# Altium schematic symbol library Revo_element.SchLib: 112 symbols (part 1 of 2)
Pins are listed as number, name and electrical type; pins without a type are passive.

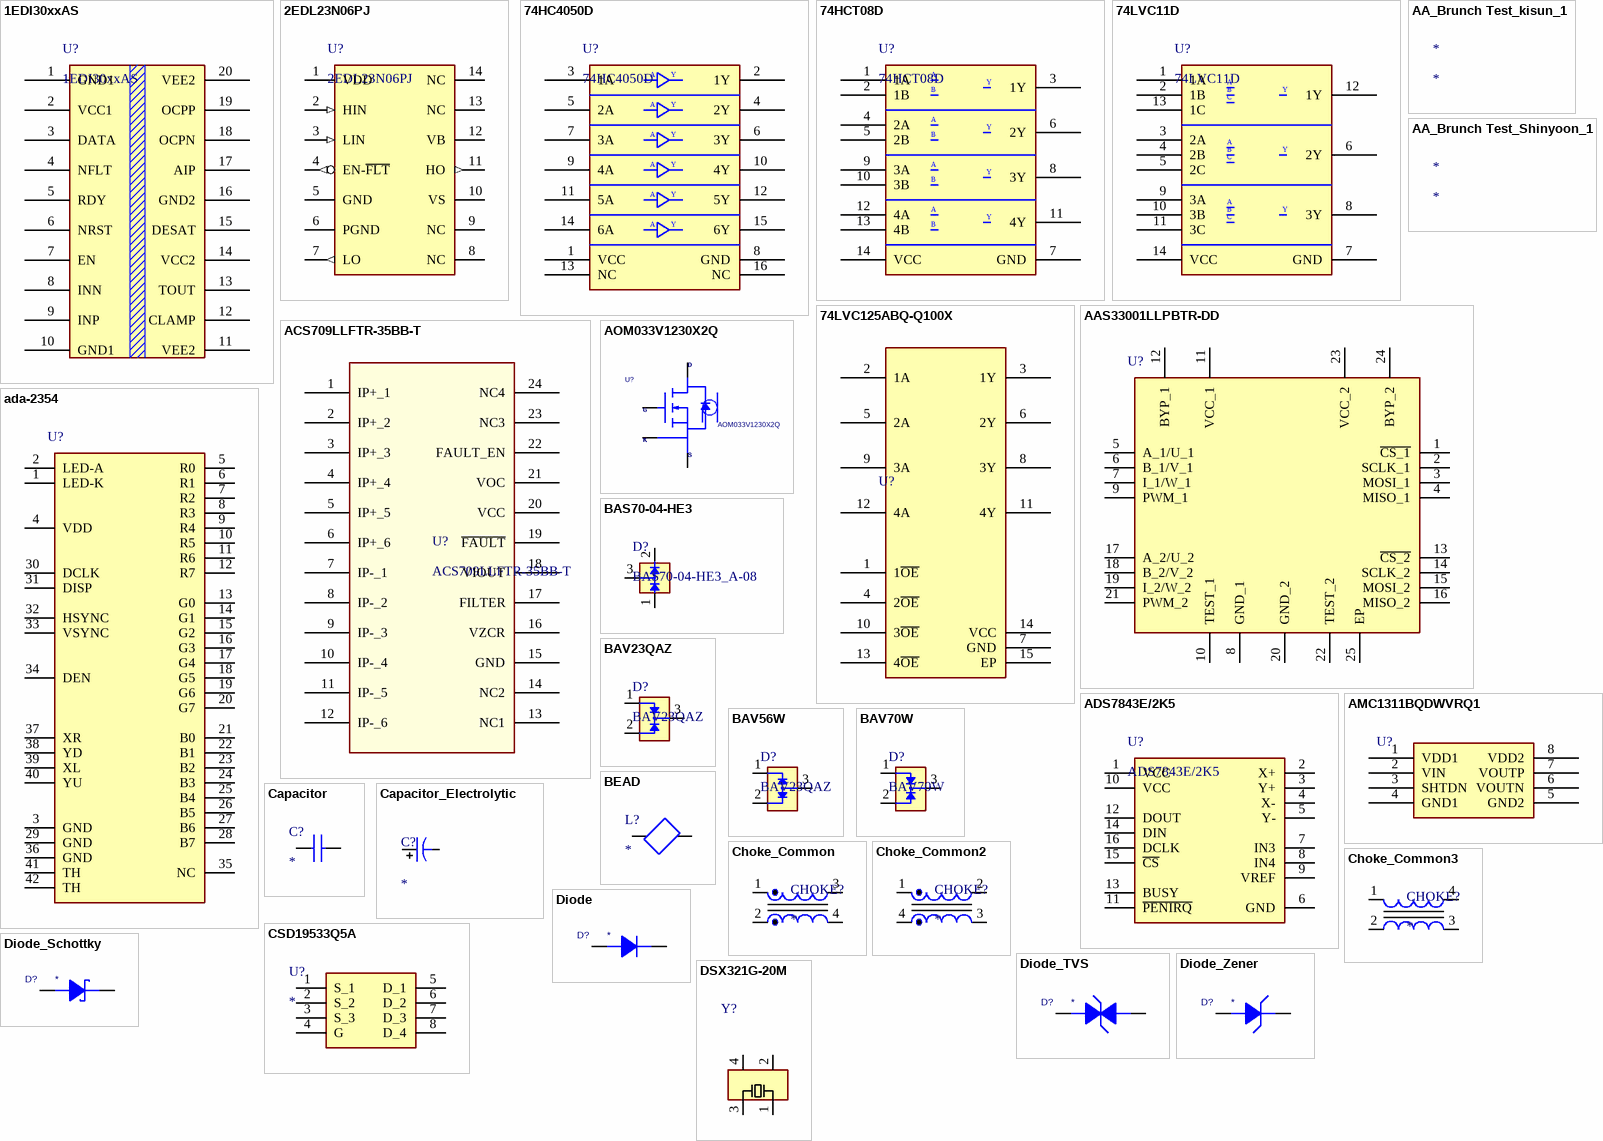
[diagram p0: symbols 1EDI30xxAS to DSX321G-20M]

## 1EDI30xxAS
designator U?
Single channel isolated IGBT driver / AEC-Q100ASIL B; Made by: Infineon; Note: IGBTs up to 1200 V; PartName: 1EDI30xxAS; Value: 1EDI30xxAS; Footprint: DSO-20; ComponentLink1Description: Datasheet; ComponentLink1URL: https://www.infineon.com/dgdl/Infineon-1EDI3023AS-DataSheet-v01_10-EN.pdf?fileId=5546d4627956d53f01798965e8a90c57; ComponentLink2Description: Market; ComponentLink2URL: Eu-ddeum Kang(ed.kang@dabo-corp.com)
footprint DSO-20
pins: 1 GND1, 2 VCC1, 3 DATA, 4 NFLT, 5 RDY, 6 NRST, 7 EN, 8 INN, 9 INP, 10 GND1, 11 VEE2, 12 CLAMP, 13 TOUT, 14 VCC2, 15 DESAT, 16 GND2, 17 AIP, 18 OCPN, 19 OCPP, 20 VEE2

## 2EDL23N06PJ
designator U?
Half Bridge Gate Driver; Made by: Infineon; Note: 600 V Half Bridge Gate Driver with OCP and Integrated Bootstrap Diode; ComponentLink1Description: Datasheet; ComponentLink1URL: https://www.mouser.kr/datasheet/2/196/Infineon_2EDL23_Final_Rev2_9_DataSheet_v02_09_EN-3360616.pdf; ComponentLink2Description: Market; ComponentLink2URL: https://www.mouser.kr/ProductDetail/Infineon-Technologies/2EDL23N06PJ?qs=61g%252BPyeGH21MM1hsJUEj5A%3D%3D; PartName: 2EDL23N06PJ; Value: 2EDL23N06PJ; Footprint: DSO-14
footprint DSO-14 (SOIC,1.27mm pitch;14 pin,3.90mm W X 8.65mm L X 1.75mm H body)
pins: 1 VDD (power) "Low side power supply", 2 HIN (in) "High side logic input", 3 LIN (in) "Low side logic input", 4 EN-~{FLT} (out), 5 GND (power) "Logic ground", 6 PGND (power) "Low side gate driver reference", 7 LO (out) "Low side gate driver output", 8 NC "Not Connected", 9 NC "Not Connected", 10 VS (power) "High side negative power supply", 11 HO (out) "High side gate driver output", 12 VB (power) "High side positive power supply", 13 NC "Not Connected", 14 NC "Not Connected"

## 74HC4050D
designator U?
Buffers & Line Drivers; Made by: Nexperia; Note: 74HC4050D/SOT109/SO16; PartName: 74HC4050D; Value: *; Footprint: SOIC16; ComponentLink1Description: Datasheet; ComponentLink1URL: https://assets.nexperia.com/documents/data-sheet/74HC4050.pdf; ComponentLink2Description: Market; ComponentLink2URL: https://www.mouser.kr/ProductDetail/Nexperia/74HC4050D653?qs=sGAEpiMZZMutXGli8Ay4kE3wRMDwmh%2F%252BAdkEBQPLYA8%3D
footprint SO-16
pins: 1 VCC, 2 1Y, 3 1A, 4 2Y, 5 2A, 6 3Y, 7 3A, 8 GND, 9 4A, 10 4Y, 11 5A, 12 5Y, 13 NC, 14 6A, 15 6Y, 16 NC
1 alternate drawing of the same symbol
text: A; Y

## 74HCT08D
designator U?
Quad 2-input AND gate; Made by: NXP USA Inc.; PartName: 74HCT08D; Value: 74HCT08D; Footprint: SOIC14; Note: Quad 2-input AND gate; ComponentLink1Description: Datasheet; ComponentLink1URL: https://pdf1.alldatasheet.com/datasheet-pdf/view/104086/PHILIPS/74HCT08D.html; ComponentLink2Description: Market; ComponentLink2URL: https://www.devicemart.co.kr/goods/view?no=34462
footprint SOIC-14N
pins: 1 1A, 2 1B, 3 1Y, 4 2A, 5 2B, 6 2Y, 7 GND, 8 3Y, 9 3A, 10 3B, 11 4Y, 12 4A, 13 4B, 14 VCC
1 alternate drawing of the same symbol
text: A; Y; B

## 74LVC11D
designator U?
AND Gate 3-Element 3-IN CMOS 14-Pin SO T/R; Made by: NXP USA Inc.; PartName: 74LVC11D; Value: 74LVC11D; Footprint: SOIC14; Note: AND Gate 3-Element 3-IN CMOS 14-Pin SO T/R; ComponentLink1Description: Datasheet; ComponentLink1URL: https://assets.nexperia.com/documents/data-sheet/74LVC11.pdf; ComponentLink2Description: Market; ComponentLink2URL: https://www.mouser.kr/ProductDetail/Nexperia/74LVC11D118?qs=me8TqzrmIYXmvrxuoQwJAQ%3D%3D
footprint SOIC-14N
pins: 1 1A, 2 1B, 3 2A, 4 2B, 5 2C, 6 2Y, 7 GND, 8 3Y, 9 3A, 10 3B, 11 3C, 12 1Y, 13 1C, 14 VCC
1 alternate drawing of the same symbol
text: A; B; Y; C

## 74LVC125ABQ-Q100X
designator U?  (value not drawn)
74LVC125A-Q100 - Quad buffer/line driver with 5 V tolerant input/outputs; 3-state@en-us; Made by: Nexperia; ComponentLink1Description: Datasheet; ComponentLink1URL: https://assets.nexperia.com/documents/data-sheet/74LVC125A_Q100.pdf; ComponentLink2Description: Market; ComponentLink2URL: https://www.mouser.co.uk/ProductDetail/Nexperia/74LVC125ABQ-Q100X?qs=fi7yB2oewZnEZl0acgeAgg%3D%3D; PartName: 74LVC125ABQ-Q100X; Value: 74LVC125ABQ-Q100X; Footprint: DHVQFN14; Note: *
footprint DHVQFN14
pins: 1 1~{OE}, 2 1A, 3 1Y, 4 2~{OE}, 5 2A, 6 2Y, 7 GND, 8 3Y, 9 3A, 10 3~{OE}, 11 4Y, 12 4A, 13 4~{OE}, 14 VCC, 15 EP

## AA_Brunch Test_kisun_1
designator *

## AA_Brunch Test_Shinyoon_1
designator *

## AAS33001LLPBTR-DD
designator U?  (value not drawn)
ASIL Angle Sensor W/ Linearization; Made by: Allegro MicroSystems; ComponentLink1Description: Datasheet; ComponentLink1URL: https://www.allegromicro.com/~/media/files/datasheets/aas33001-datasheet.pdf; ComponentLink2Description: Market; ComponentLink2URL: https://www.mouser.co.uk/ProductDetail/Allegro-MicroSystems/AAS33001LLPBTR-DD?qs=pUKx8fyJudCG5NNAS8lirA%3D%3D; PartName: AAS33001LLPBTR-DD; Value: AAS33001LLPBTR-DD; Footprint: LP-24; Note: *
footprint LP-24
pins: 1 ~{CS_1}, 2 SCLK_1, 3 MOSI_1, 4 MISO_1, 5 A_1/U_1, 6 B_1/V_1, 7 I_1/W_1, 8 GND_1, 9 PWM_1, 10 TEST_1, 11 VCC_1, 12 BYP_1, 13 ~{CS_2}, 14 SCLK_2, 15 MOSI_2, 16 MISO_2, 17 A_2/U_2, 18 B_2/V_2, 19 I_2/W_2, 20 GND_2, 21 PWM_2, 22 TEST_2, 23 VCC_2, 24 BYP_2, 25 EP

## ACS709LLFTR-35BB-T
designator U?
Made by: Allegro MicroSystems; Note: Board Mount Current Sensors For New Designs Contact Factory; PartName: ACS709LLFTR-35BB-T; Value: ACS709LLFTR-35BB-T; Footprint: QSOP-24; ComponentLink1Description: Datasheet; ComponentLink1URL: https://www.mouser.kr/ProductDetail/Allegro-MicroSystems/ACS709LLFTR-35BB-T?qs=pUKx8fyJudDEHmLBVmyqaQ%3D%3D; ComponentLink2Description: Market; ComponentLink2URL: https://www.mouser.kr/ProductDetail/Allegro-MicroSystems/ACS709LLFTR-35BB-T?qs=pUKx8fyJudDEHmLBVmyqaQ%3D%3D
footprint QSOP-24
pins: 1 IP+_1, 2 IP+_2, 3 IP+_3, 4 IP+_4, 5 IP+_5, 6 IP+_6, 7 IP-_1, 8 IP-_2, 9 IP-_3, 10 IP-_4, 11 IP-_5, 12 IP-_6, 13 NC1, 14 NC2, 15 GND, 16 VZCR, 17 FILTER, 18 VIOUT, 19 ~{FAULT}, 20 VCC, 21 VOC, 22 FAULT_EN, 23 NC3, 24 NC4

## ada-2354
designator U?, comment 7.0' 40-pin TFT Display  (value not drawn)
7.0' 40-pin TFT Display - 800x480 with Touchscreen; Made by: Adafruit; ComponentLink1Description: Datasheet; ComponentLink1URL: https://www.devicemart.co.kr/goods/view?no=20915; ComponentLink2Description: Market; ComponentLink2URL: https://www.devicemart.co.kr/goods/view?no=1170657; PartName: ada-2354; Value: 7.0' 40-pin TFT Display; Footprint: FFC-40P; Note: TFT Display - 800x480
footprint FFC-40P (7.0' 40-pin TFT Display - 800x480 with Touchscreen)
pins: 1 LED-K, 2 LED-A, 3 GND, 4 VDD, 5 R0, 6 R1, 7 R2, 8 R3, 9 R4, 10 R5, 11 R6, 12 R7, 13 G0, 14 G1, 15 G2, 16 G3, 17 G4, 18 G5, 19 G6, 20 G7, 21 B0, 22 B1, 23 B2, 24 B3, 25 B4, 26 B5, 27 B6, 28 B7, 29 GND, 30 DCLK, 31 DISP, 32 HSYNC, 33 VSYNC, 34 DEN, 35 NC, 36 GND, 37 XR, 38 YD, 39 XL, 40 YU, 41 TH, 42 TH

## ADS7843E/2K5
designator U?
Touch Screen Controllers; Made by: Texas Instruments; Note: 4-wire Touch Screen Controller; ComponentLink1Description: Datasheet; ComponentLink1URL: https://www.ti.com/lit/ds/symlink/ads7843.pdf?ts=1730719205709&ref_url=https%253A%252F%252Fwww.ti.com%252Fproduct%252FADS7843%253FCMP%253Dconv-poasamples; ComponentLink2Description: Market; ComponentLink2URL: https://www.mouser.kr/ProductDetail/Texas-Instruments/ADS7843E-2K5?qs=%252BvKcWiXw%252BzQ2E8ck4Huknw%3D%3D; PartName: ADS7843E/2K5; Value: *; Footprint: SSOP-16
footprint SSOP-16
pins: 1 VCC, 2 X+, 3 Y+, 4 X-, 5 Y-, 6 GND, 7 IN3, 8 IN4, 9 VREF, 10 VCC, 11 ~{PENIRQ}, 12 DOUT, 13 BUSY, 14 DIN, 15 ~{CS}, 16 DCLK

## AMC1311BQDWVRQ1
designator U?  (value not drawn)
Automotive High-Impedance; Made by: Texas Instruments; ComponentLink1Description: Datasheet; ComponentLink1URL: http://www.ti.com/lit/gpn/amc1311-q1; ComponentLink2Description: Market; ComponentLink2URL: https://www.mouser.co.uk/ProductDetail/Texas-Instruments/AMC1311BQDWVRQ1?qs=gTYE2QTfZfTgu8Ui9enZXg%3D%3D; PartName: AMC1311BQDWVRQ1; Value: AMC1311BQDWVRQ1; Footprint: SOIC-8N; Note: *
footprint SOIC-8N
pins: 1 VDD1, 2 VIN, 3 SHTDN, 4 GND1, 5 GND2, 6 VOUTN, 7 VOUTP, 8 VDD2

## AOM033V1230X2Q
designator U?
MOSFET; Made by: ALPHA & OMEGA SEMICONDUCTOR; Note: 1200V αSiC Silicon Carbide Power MOSFET; PartName: AOM033V1230X2Q; Value: AOM033V1230X2Q; Footprint: TO-247-4L; ComponentLink1Description: Datasheet; ComponentLink1URL: https://components101.com/sites/default/files/2021-03/AOM033V120X2Q-Datasheet.pdf; ComponentLink2Description: Market; ComponentLink2URL: *
footprint TO-247-4L (Footprint not found)
pins: 1 Drain, 2 Source, 3 K, 4 Gate
text: D; G; S

## BAS70-04-HE3
designator D?, comment BAS70-04-HE3_A-08
Small Signal Schottky Diodes, Single and Dual AEC-Q101; Made by: Vishay Semiconductors; Note: Schottky Diodes & Rectifiers; PartName: BAS70-04-HE3_A-08; Value: BAS70-04-HE3_A-08; Footprint: SOT23; ComponentLink1Description: Datasheet; ComponentLink1URL: https://www.vishay.com/docs/86402/bas70-00tobas70-06.pdf; ComponentLink2Description: Market; ComponentLink2URL: https://www.mouser.kr/ProductDetail/Vishay/BAS70-04-HE3_A-08?qs=Imq1NPwxi76SwIinlQWb8A%3D%3D
footprint SOT23
pins: 1 A, 2 C, 3 CA

## BAV23QAZ
designator D?
Small Signal Switching Diodes BAV23QA/SOT1215/DFN1010D-3; Made by: Nexperia; PartName: BAV23QAZ; Value: BAV23QAZ; Footprint: DFN101D-3; Note: Small Signal Switching Diodes; ComponentLink1Description: Datasheet; ComponentLink1URL: https://www.mouser.com/datasheet/2/916/BAV23QA-2937110.pdf; ComponentLink2Description: Market; ComponentLink2URL: https://www.mouser.com/ProductDetail/Nexperia/BAV23QAZ?qs=MLItCLRbWswINXxPb8ByxQ%3D%3D
footprint DFN101D-3
pins: 1 A, 2 A, 3 C

## BAV56W
designator D?, comment BAV23QAZ
Small Signal Switching Diodes Small Signal Diode, SOT-323, 85V, 0.15A, 150C; Made by: Diotec Semiconductor; PartName: BAV23QAZ; Value: BAV23QAZ; Footprint: SOT323; Note: Small Signal Switching Diode; ComponentLink1Description: Datasheet; ComponentLink1URL: https://diotec.com/request/datasheet/bas16w.pdf; ComponentLink2Description: Market; ComponentLink2URL: https://www.mouser.kr/ProductDetail/Diotec-Semiconductor/BAW56W?qs=OlC7AqGiEDmdhMRngkcE6w%3D%3D
footprint SOT323
pins: 1 A, 2 A, 3 C

## BAV70W
designator D?
Small Signal Switching Diodes Small Signal Diode, SOT-323, 85V, 0.15A, 150C; Made by: Diotec Semiconductor; PartName: BAV70W; Value: BAV70W; Footprint: SOT323; Note: Small Signal Switching Diode; ComponentLink1Description: Datasheet; ComponentLink1URL: https://diotec.com/request/datasheet/bas16w.pdf; ComponentLink2Description: Market; ComponentLink2URL: https://www.mouser.kr/ProductDetail/Diotec-Semiconductor/BAW56W?qs=OlC7AqGiEDmdhMRngkcE6w%3D%3D
footprint SOT323
pins: 1 A, 2 A, 3 C

## BEAD
designator L?
BEAD; PartName: *; Value: *; Footprint: *; Made by: *; Note: *; ComponentLink1Description: Datasheet; ComponentLink1URL: *; ComponentLink2Description: Market; ComponentLink2URL: *
footprint L1005(0402) (Chip Inductor 1005(0402))
footprint L1608(0603) (Chip Inductor 1608(0603))
footprint L2012(0805) (Chip Inductor 2012(0805))
footprint L2520(1008) (Chip Inductor 2520(1008))
footprint L3216(1206) (Chip Inductor 3216(1206))
footprint L6363 (2525) (IHLP2525CZER6R8MA1)
pins: 1, 2

## Capacitor
designator C?
Capacitor; PartName: *; Value: *; ComponentLink1Description: Datasheet; ComponentLink1URL: *; ComponentLink2Description: Market; ComponentLink2URL: *; Footprint: *; Made by: *; Note: *
footprint C0603(0201) (Chip Capacitor 0603(0201))
footprint C1005(0402) (Chip Capacitor 1005(0402))
footprint C1608(0603) (Chip Capacitor 1608(0603))
footprint C2012(0805) (Chip Capacitor 2012(0805))
footprint C3216(1206) (Chip Capacitor 3216(1206))
footprint C3225(1210) (Chip Capacitor 3225(1210))
footprint C4532(1812) (Chip Capacitor 4532(1812))
footprint C5750(2220) (Chip Capacitor 5750(2220))
footprint B32522C3334K000
pins: 1, 2

## Capacitor_Electrolytic
designator C?
Capacitor Electrolytic; PartName: *; Value: *; Footprint: *; Made by: *; Note: *; ComponentLink1Description: Datasheet; ComponentLink1URL: *; ComponentLink2Description: Market; ComponentLink2URL: *
footprint C-AE(6.3X7.7mm) (SMD Capacitor (6.3-X7.7mm))
footprint C-AE(8.0X6.2mm) (EEE-FK1H470P)
footprint C-AE(8.0X10.0mm) (SMD Capacitor (8.0-X10.0mm))
footprint C-AE(8.0X10.5mm) (EEE-FK1H101V)
footprint C-AE(12.5X13.5mm) (SMD Capacitor (12.5X13.5mm))
pins: 1, 2

## Choke_Common
designator CHOKE?
Common Choke; PartName: *; Value: *; Footprint: *; Made by: *; Note: *; ComponentLink1Description: Datasheet; ComponentLink1URL: *; ComponentLink2Description: Market; ComponentLink2URL: *
footprint CH025010SB2
pins: 1, 2, 3, 4

## Choke_Common2
designator CHOKE?
Common Choke; PartName: *; Value: *; Footprint: *; Made by: *; Note: *; ComponentLink1Description: Datasheet; ComponentLink1URL: *; ComponentLink2Description: Market; ComponentLink2URL: *
footprint CH025010SB2
pins: 1, 2, 3, 4

## Choke_Common3
designator CHOKE?
Common Choke; PartName: *; Value: *; Footprint: *; Made by: *; Note: *; ComponentLink1Description: Datasheet; ComponentLink1URL: *; ComponentLink2Description: Market; ComponentLink2URL: *
footprint CH025010SB2
pins: 1, 2, 3, 4

## CSD19533Q5A
designator U?
Integrated Circuit; Manufacturer_Name: Texas Instruments; Manufacturer_Part_Number: CSD19533Q5A; Datasheet Link: http://www.ti.com/lit/gpn/csd19533q5a; Mouser Part Number: 595-CSD19533Q5A; Mouser Price/Stock: https://www.mouser.co.uk/ProductDetail/Texas-Instruments/CSD19533Q5A?qs=wrT8kFYR779yaCjXo9xLGg%3D%3D; Arrow Part Number: CSD19533Q5A; Arrow Price/Stock: https://www.arrow.com/en/products/csd19533q5a/texas-instruments?region=nac
footprint CSD19531Q5AT
pins: 1 S_1, 2 S_2, 3 S_3, 4 G, 5 D_1, 6 D_2, 7 D_3, 8 D_4

## Diode
designator D?
Diode; PartName: *; Value: *; Footprint: *; Made by: *; Note: *; ComponentLink1Description: Datasheet; ComponentLink1URL: *; ComponentLink2Description: Market; ComponentLink2URL: *
footprint DO-218
footprint DO-221BC
footprint DO-221AD
footprint SMA
footprint DO-214AC
footprint SOD123
pins: 1 C, 2 A

## Diode_Schottky
designator D?
Schottky Diode; PartName: *; Value: *; Footprint: *; Made by: *; Note: *; ComponentLink1Description: Datasheet; ComponentLink1URL: *; ComponentLink2Description: Market; ComponentLink2URL: *
footprint DO-218
footprint DO-221BC
footprint DO-221AD
footprint SOD123
pins: 1 C, 2 A

## Diode_TVS
designator D?
TVS Diode; PartName: *; Value: *; Footprint: *; Made by: *; Note: *; ComponentLink1Description: Datasheet; ComponentLink1URL: *; ComponentLink2Description: Market; ComponentLink2URL: *
footprint SOD323
footprint DO-221BC
footprint DO-221AD
pins: 1 C, 2 A

## Diode_Zener
designator D?
Zener Diode; PartName: *; Value: *; Footprint: *; Made by: *; Note: *; ComponentLink1Description: Datasheet; ComponentLink1URL: *; ComponentLink2Description: Market; ComponentLink2URL: *
footprint DO-218
footprint DO-221BC
footprint DO-221AD
pins: 1 C, 2 A

## DSX321G-20M
designator Y?, comment 20MHz  (value not drawn)
20MHz +/-20ppm 12pF 60 SMD-3225_4P SMD Crystal Resonators RoHS; PartName: DSX321G-20M; Made by: KDS Daishinku; ComponentLink1Description: Datasheet; ComponentLink1URL: https://datasheet.lcsc.com/szlcsc/KDS-Daishinku-KDS-DSX321G-20M_C110936.pdf; ComponentLink2Description: Market; ComponentLink2URL: https://www.eleparts.co.kr/goods/view?no=6614216; Value: 20MHz; Footprint: DSX321G20M; Note: *
footprint DSX321G20M
pins: 1 XTAL_1, 2 GND_1, 3 XTAL_2, 4 GND_2

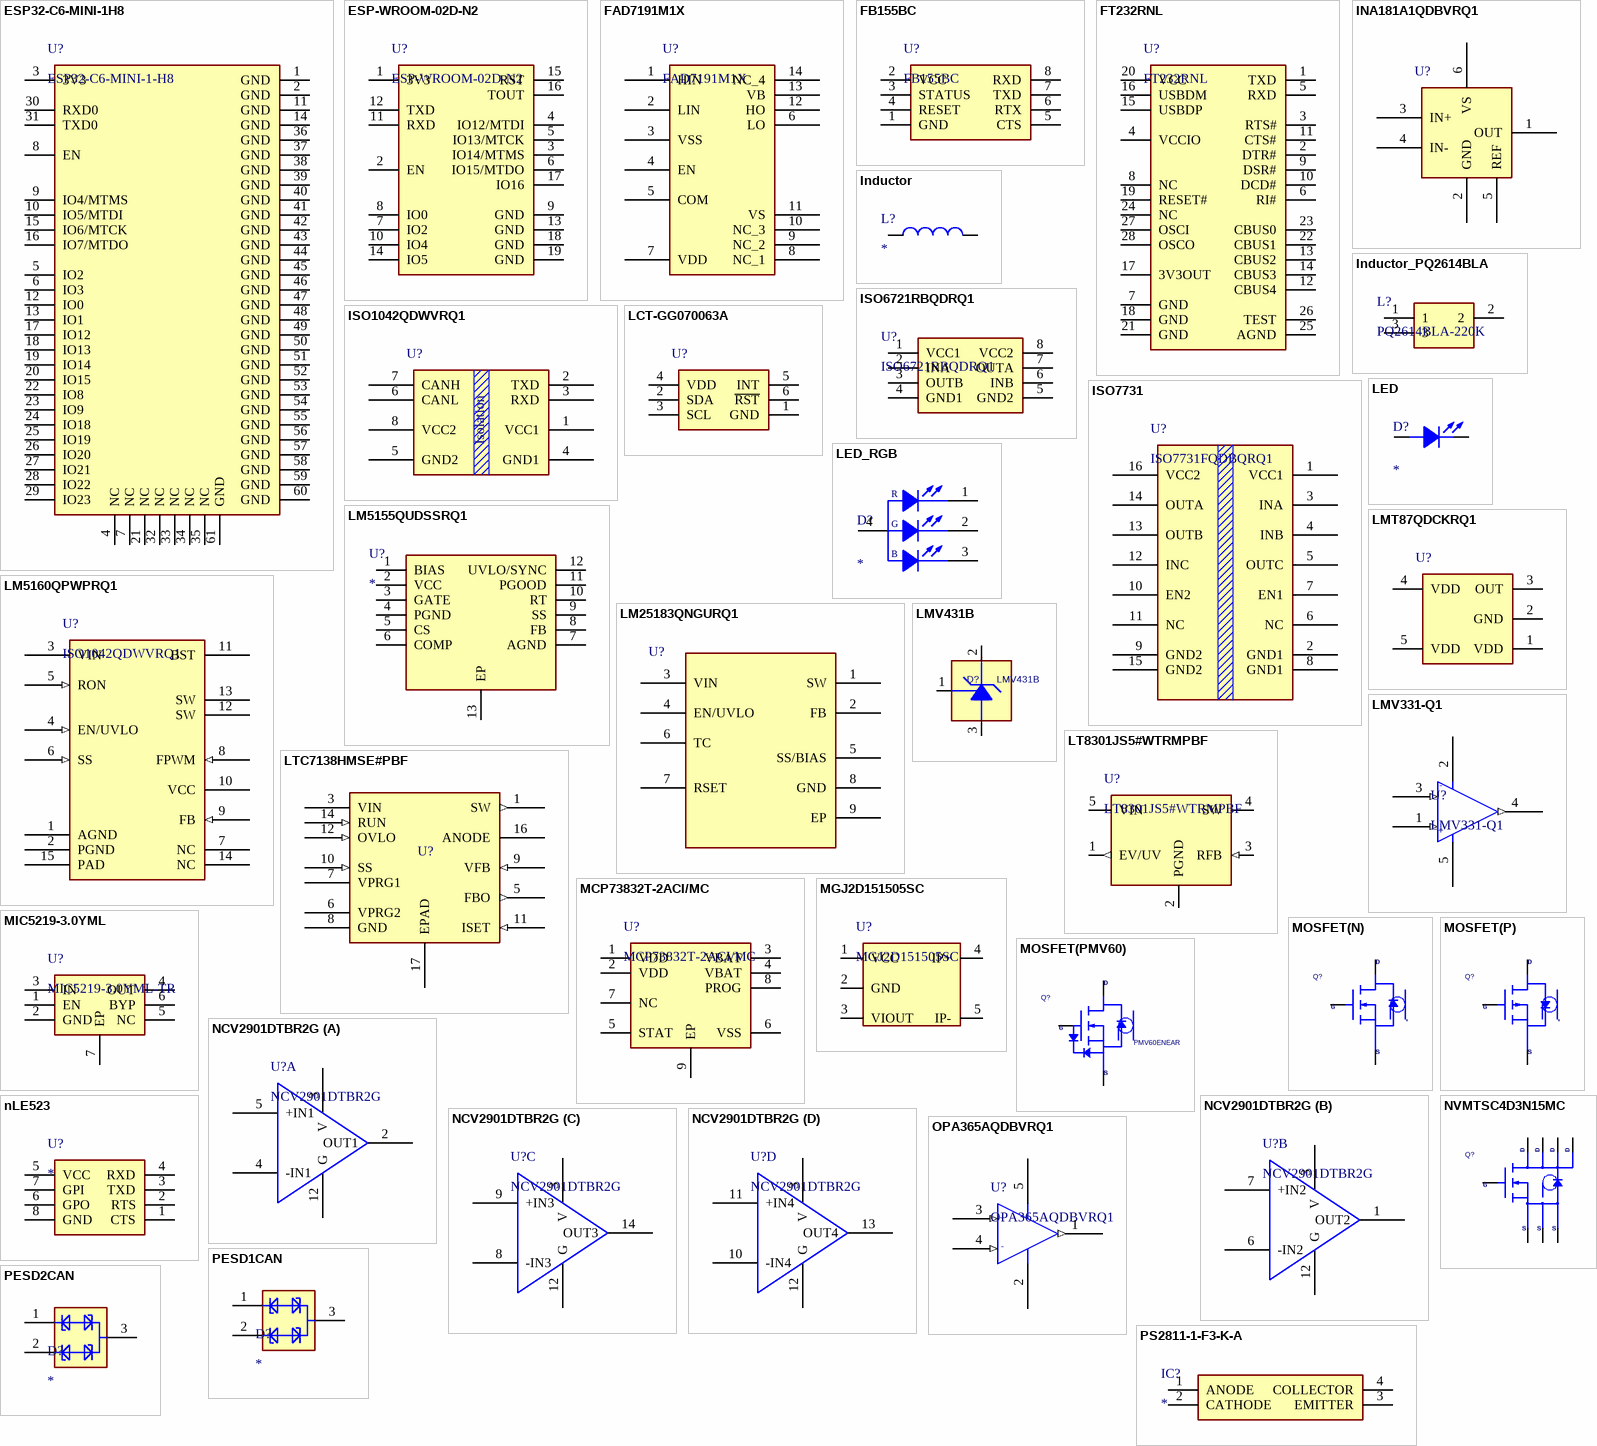
[diagram p1: symbols ESP32-C6-MINI-1H8 to PS2811-1-F3-K-A]

## ESP32-C6-MINI-1H8
designator U?, comment ESP32-C6-MINI-1-H8
Multiprotocol Modules ESP32-C6-MINI-1; Value: ESP32; Made by: Espressif Systems; PartName: ESP32-C6-MINI-1-H8; Footprint: ESP32C6MINI1H8; Note: Multiprotocol Modules; ComponentLink1Description: Datasheet; ComponentLink1URL: https://www.mouser.com/catalog/specsheets/Espressif_Systems_esp32-c6-mini-1_mini-1u_datasheet_en.pdf?_gl=1*b36wrz*_gcl_aw*R0NMLjE3NDExMzczMjAuQ2p3S0NBaUE1cHEtQmhCdUVpd0F2a3pWWmFkRngwbTR3NkpWWUVIRFdNbnpDTUpGT1dXN20wWFpoWjlmdWtNc0lhSl9yUXk3NU5RazlCb0NucEVRQXZEX0J3RQ..*_gcl_au*MTIxMjAyMTcxMy4xNzM5ODU3OTQw*_ga*OTg4ODgwMDk5LjE3MzU4NzI2NDM.*_ga_15W4STQT4T*MTc0MTEzNzA0Ni4yMC4xLjE3NDExMzc2NzQuNTMuMC4w; ComponentLink2Description: Market; ComponentLink2URL: https://www.mouser.kr/ProductDetail/Espressif-Systems/ESP32-C6-MINI-1-H8?qs=olJun0bQHM8q1UR%2FHSWi2A%3D%3D
footprint ESP32C6MINI1H8
pins: 1 GND, 2 GND, 3 3V3, 4 NC, 5 IO2, 6 IO3, 7 NC, 8 EN, 9 IO4/MTMS, 10 IO5/MTDI, 11 GND, 12 IO0, 13 IO1, 14 GND, 15 IO6/MTCK, 16 IO7/MTDO, 17 IO12, 18 IO13, 19 IO14, 20 IO15, 21 NC, 22 IO8, 23 IO9, 24 IO18, 25 IO19, 26 IO20, 27 IO21, 28 IO22, 29 IO23, 30 RXD0, 31 TXD0, 32 NC, 33 NC, 34 NC, 35 NC, 36 GND, 37 GND, 38 GND, 39 GND, 40 GND, 41 GND, 42 GND, 43 GND, 44 GND, 45 GND, 46 GND, 47 GND, 48 GND, 49 GND, 50 GND, 51 GND, 52 GND, 53 GND, 54 GND, 55 GND, 56 GND, 57 GND, 58 GND, 59 GND, 60 GND, 61 GND

## ESP-WROOM-02D-N2
designator U?
Multiprotocol Modules ESP32-C6-MINI-1; Value: ESP32; Made by: Espressif Systems; PartName: ESP-WROOM-02D-N2; Footprint: ESPWROOM02DN2; Note: Multiprotocol Modules; ComponentLink1Description: Datasheet; ComponentLink1URL: https://www.mouser.kr/datasheet/2/891/esp_wroom_02u_esp_wroom_02d_datasheet_en-3011525.pdf; ComponentLink2Description: Market; ComponentLink2URL: https://www.mouser.kr/ProductDetail/Espressif-Systems/ESP-WROOM-02D-N2?qs=sGAEpiMZZMu3sxpa5v1qrkR%2F6t0IkXq87nS23%2FgoY5Q%3D
footprint ESPWROOM02DN2
pins: 1 3V3, 2 EN, 3 IO14/MTMS, 4 IO12/MTDI, 5 IO13/MTCK, 6 IO15/MTDO, 7 IO2, 8 IO0, 9 GND, 10 IO4, 11 RXD, 12 TXD, 13 GND, 14 IO5, 15 RST, 16 TOUT, 17 IO16, 18 GND, 19 GND

## FAD7191M1X
designator U?
AUTOMOTIVE HVIC; Made by: onsemi; ComponentLink1Description: Datasheet; ComponentLink1URL: http://www.onsemi.com/pub/Collateral/FAN7191_F085-D.PDF; ComponentLink2Description: Market; ComponentLink2URL: https://www.mouser.co.uk/ProductDetail/ON-Semiconductor/FAD7191M1X/?qs=byeeYqUIh0P3CeTOb9fCLQ%3D%3D; PartName: FAD7191M1X; Value: FAD7191M1X; Footprint: SOIC-14N; Note: *
footprint SOIC-14N
pins: 1 HIN, 2 LIN, 3 VSS, 4 EN, 5 COM, 6 LO, 7 VDD, 8 NC_1, 9 NC_2, 10 NC_3, 11 VS, 12 HO, 13 VB, 14 NC_4

## FB155BC
designator U?
Bluetooth Module Class2; Made by: Firmtech; ComponentLink1Description: Datasheet; ComponentLink1URL: http://www.firmtech.co.kr/default/product/bluetooth/sub01_product01.php; ComponentLink2Description: Market; ComponentLink2URL: https://www.devicemart.co.kr/goods/view?no=12418; PartName: FB155BC; Value: *; Footprint: FB155BC; Note: Bluetooth Module
footprint FB155BC
pins: 1 GND, 2 VCC, 3 STATUS, 4 RESET, 5 CTS, 6 RTX, 7 TXD, 8 RXD

## FT232RNL
designator U?
USB Interface IC; Made by: FTDI; Note: Includes Oscillator and EEPROM; ComponentLink1Description: Datasheet; ComponentLink1URL: https://www.mouser.kr/datasheet/2/163/DS_FT232RN-3135636.pdf; ComponentLink2Description: Market; ComponentLink2URL: https://www.mouser.kr/ProductDetail/FTDI/FT232RNL-TUBE?qs=By6Nw2ByBD3n6DWgWW3egA%3D%3D; PartName: *; Value: FT232RNL; Footprint: SSOP_28
footprint SSOP_28
pins: 1 TXD, 2 DTR#, 3 RTS#, 4 VCCIO, 5 RXD, 6 RI#, 7 GND, 8 NC, 9 DSR#, 10 DCD#, 11 CTS#, 12 CBUS4, 13 CBUS2, 14 CBUS3, 15 USBDP, 16 USBDM, 17 3V3OUT, 18 GND, 19 RESET#, 20 VCC, 21 GND, 22 CBUS1, 23 CBUS0, 24 NC, 25 AGND, 26 TEST, 27 OSCI, 28 OSCO

## INA181A1QDBVRQ1
designator U?  (value not drawn)
Current Sense Amplifiers AEC-Q100, 26V, bi-directional, 350kHz current sense amplifier 6-SOT-23 -40 to 125; Made by: Texas Instruments; PartName: INA181A1QDBVRQ1; Value: INA181A1QDBVRQ1; Footprint: SC-70-6; Note: Current Sense Amplifiers; ComponentLink1Description: Datasheet; ComponentLink1URL: https://www.ti.com/lit/ds/symlink/ina181-q1.pdf?ts=1723611119749&ref_url=https%253A%252F%252Fwww.mouser.kr%252F; ComponentLink2Description: Market; ComponentLink2URL: https://www.mouser.kr/ProductDetail/Texas-Instruments/INA181A1QDCKRQ1?qs=ZcfC38r4PouN61%2F2H7cWCA%3D%3D
footprint SOT23-6L
pins: 1 OUT, 2 GND, 3 IN+, 4 IN-, 5 REF, 6 VS

## Inductor
designator L?
Inductor; PartName: *; Value: *; Footprint: *; Made by: *; Note: *; ComponentLink1Description: Datasheet; ComponentLink1URL: *; ComponentLink2Description: Market; ComponentLink2URL: *
footprint L1005(0402) (Chip Inductor 1005(0402))
footprint L1608(0603) (Chip Inductor 1608(0603))
footprint L2012(0805) (Chip Inductor 2012(0805))
footprint L2520(1008) (Chip Inductor 2520(1008))
footprint L3216(1206) (Chip Inductor 3216(1206))
footprint L6363 (2525) (IHLP2525CZER6R8MA1)
footprint L3225(1210) (Chip Inductor L3225(1210))
footprint L(INDPM177172X700N) (Footprint not found)
pins: 1, 2

## Inductor_PQ2614BLA
designator L?, comment PQ2614BLA-220K
Inductor; Manufacturer_Name: Bourns; Manufacturer_Part_Number: PQ2614BLA-XXX; Datasheet Link: https://www.mouser.com/datasheet/2/54/bourns_PQ2614BLA_BHA_datasheet-1159238.pdf; Height: 16mm; Mouser Part Number: 652-PQ2614BLA-100K; Mouser Price/Stock: https://www.mouser.co.uk/ProductDetail/Bourns/PQ2614BLA-100K?qs=1mbolxNpo8dMKwtGfSvUcA%3D%3D; Arrow Part Number: PQ2614BLA-100K; Arrow Price/Stock: null?region=nac; ComponentLink1Description: Datasheet; ComponentLink1URL: https://www.mouser.kr/datasheet/2/54/bourns_PQ2614BLA_BHA_datasheet-1159238.pdf; ComponentLink2Description: Market; ComponentLink2URL: https://www.mouser.kr/ProductDetail/Bourns/PQ2614BLA-220K?qs=1mbolxNpo8fftjt2B2cuQA%3D%3D&srsltid=AfmBOoqS7rPjDpvfGHM0w5E-DTZoOOm4WDooDlgxz4JO0fzlJIF52pi3; Value: PQ2614BLA-220K
footprint L(PQ2614BLA) (Footprint not found)
pins: 1, 2, 3

## ISO1042QDWVRQ1
designator U?  (value not drawn)
Isolated CAN Transceiver With 70V; Made by: Texas Instruments; ComponentLink1Description: Datasheet; ComponentLink1URL: http://www.ti.com/lit/gpn/ISO1042-Q1; ComponentLink2Description: Market; ComponentLink2URL: https://www.mouser.co.uk/ProductDetail/Texas-Instruments/ISO1042QDWVRQ1?qs=byeeYqUIh0P57%2Fi18X92hA%3D%3D; PartName: ISO1042QDWVRQ1; Value: ISO1042QDWVRQ1; Footprint: SOIC-8N; Note: *
footprint SOIC-8N
pins: 1 VCC1, 2 TXD, 3 RXD, 4 GND1, 5 GND2, 6 CANL, 7 CANH, 8 VCC2
text: Isolation

## ISO6721RBQDRQ1
designator U?
Digital Isolators Automotive; Made by: Texas Instruments; ComponentLink1Description: Datasheet; ComponentLink1URL: https://www.ti.com/lit/ds/symlink/iso6721r-q1.pdf?ts=1709500439269&ref_url=https%253A%252F%252Fcz.mouser.com%252F; ComponentLink2Description: Market; ComponentLink2URL: https://www.mouser.co.uk/ProductDetail/Texas-Instruments/ISO6721RBQDRQ1?qs=doiCPypUmgHwmQOABRztlg%3D%3D; PartName: ISO6721RBQDRQ1; Value: ISO6721RBQDRQ1; Footprint: SOIC-8; Note: *
footprint SOIC-8
pins: 1 VCC1, 2 INA, 3 OUTB, 4 GND1, 5 GND2, 6 INB, 7 OUTA, 8 VCC2

## ISO7731
designator U?, comment ISO7731FQDBQRQ1
reinforced digital isolator; Made by: Texas Instruments; PartName: ISO7731FQDBQRQ1; Value: ISO7731FQDBQRQ1; Footprint: SOIC-16; Note: reinforced digital isolator; ComponentLink1Description: Datasheet; ComponentLink1URL: https://www.ti.com/lit/ds/symlink/iso7731.pdf?HQS=dis-mous-null-mousermode-dsf-pf-null-wwe&ts=1668586098622&ref_url=https%253A%252F%252Fwww.mouser.kr%252F; ComponentLink2Description: Market; ComponentLink2URL: https://www.mouser.kr/ProductDetail/Texas-Instruments/ISO7731BDWR?qs=MLItCLRbWswBFV7NqIkaZw%3D%3D
footprint SOIC-16
pins: 1 VCC1, 2 GND1, 3 INA, 4 INB, 5 OUTC, 6 NC, 7 EN1, 8 GND1, 9 GND2, 10 EN2, 11 NC, 12 INC, 13 OUTB, 14 OUTA, 15 GND2, 16 VCC2

## LCT-GG070063A
designator U?  (value not drawn)
7inch Capacitive Touch Panel; Made by: Laurel Electronics; ComponentLink1Description: Datasheet; ComponentLink1URL: https://www.devicemart.co.kr/goods/view?no=20930; ComponentLink2Description: Market; ComponentLink2URL: https://www.devicemart.co.kr/goods/view?no=1357649; PartName: LCT-GG070063A; Value: *; Footprint: FFC-06P; Note: *
footprint FFC-06P (7.0' 40-pin TFT Display - 800x480 with Touchscreen)
pins: 1 GND, 2 SDA, 3 SCL, 4 VDD, 5 INT, 6 ~{RST}

## LED
designator D?
LED; PartName: *; Value: *; Footprint: *; Made by: *; Note: *; ComponentLink1Description: Datasheet; ComponentLink1URL: *; ComponentLink2Description: Market; ComponentLink2URL: *
footprint LED1005(0402)_B (Chip LED 1005(0402))
footprint LED1005(0402)_G (Chip LED 1005(0402))
footprint LED1005(0402)_R (Chip LED 1005(0402))
footprint LED1608(0603)_B (Chip LED 1608(0603))
footprint LED1608(0603)_G (Chip LED 1608(0603))
footprint LED1608(0603)_R (Chip LED 1608(0603))
footprint LED2012(0805)_B (Chip LED 2012(0805))
footprint LED2012(0805)_G (Chip LED 2012(0805))
footprint LED2012(0805)_R (Chip LED 2012(0805))
footprint LED3216(1206)_B (Chip LED 3216(1206))
footprint LED3216(1206)_G (Chip LED 3216(1206))
footprint LED3216(1206)_R (Chip LED 3216(1206))
pins: 1 CATHODE, 2 ANODE

## LED_RGB
designator D?
LED; PartName: *; Value: *; Footprint: *; Made by: *; Note: *; ComponentLink1Description: Datasheet; ComponentLink1URL: *; ComponentLink2Description: Market; ComponentLink2URL: *
footprint WR-PA3528UEUGUB/C
footprint ASMBMTB10B3A2 (Footprint not found)
pins: 1 CATHODE(RED), 2 CATHODE(GREEN), 3 CATHODE(BLUE), 4 ANODE
text: R; G; B

## LM5155QUDSSRQ1
designator U?
Integrated Circuit; Manufacturer_Name: Texas Instruments; Manufacturer_Part_Number: LM5155QDSSRQ1; Datasheet Link: https://www.arrow.com/en/products/lm5155qdssrq1/texas-instruments; Height: 0.8mm; Mouser Part Number: 595-LM5155QDSSRQ1; Mouser Price/Stock: https://www.mouser.co.uk/ProductDetail/Texas-Instruments/LM5155QDSSRQ1?qs=%252B6g0mu59x7IJnkhYB%252BkvRw%3D%3D; Arrow Part Number: LM5155QDSSRQ1; Arrow Price/Stock: https://www.arrow.com/en/products/lm5155qdssrq1/texas-instruments?utm_currency=USD&region=europe; ComponentLink1Description: Datasheet; ComponentLink1URL: https://www.ti.com/lit/gpn/lm5155-q1; ComponentLink2Description: Market; ComponentLink2URL: https://www.mouser.kr/ProductDetail/Texas-Instruments/LM5155QUDSSRQ1?qs=17ckDYBRden80sJpYJpgGg%3D%3D
footprint SON50P200X300X80-13N
pins: 1 BIAS, 2 VCC, 3 GATE, 4 PGND, 5 CS, 6 COMP, 7 AGND, 8 FB, 9 SS, 10 RT, 11 PGOOD, 12 UVLO/SYNC, 13 EP

## LM5160QPWPRQ1
designator U?, comment ISO1042QDWVRQ1
Switching Voltage Regulators Wide Input 65V, 2A Synchronous Buck / Fly-Buck Converter 14-HTSSOP -40 to 125; Made by: Texas Instruments; PartName: ISO1042QDWVRQ1; Value: ISO1042QDWVRQ1; Footprint: HTSSOP-14; Note: Switching Voltage Regulators; ComponentLink1Description: Datasheet; ComponentLink1URL: https://www.ti.com/lit/ds/symlink/lm5160-q1.pdf?HQS=dis-mous-null-mousermode-dsf-pf-null-wwe&ts=1683186817117&ref_url=https%253A%252F%252Fwww.mouser.kr%252F; ComponentLink2Description: Market; ComponentLink2URL: https://www.mouser.kr/ProductDetail/Texas-Instruments/LM5160QPWPRQ1?qs=q3hS8dlu9yL1ekfFTtnI4w%3D%3D
footprint HTSSOP-14
pins: 1 AGND, 2 PGND, 3 VIN, 4 EN/UVLO (in), 5 RON (in), 6 SS (in), 7 NC, 8 FPWM (in), 9 FB (in), 10 VCC, 11 BST, 12 SW, 13 SW, 14 NC, 15 PAD

## LM25183QNGURQ1
designator U?  (value not drawn)
LM25183 Q1 42 VIN PSR Flyback DC DC Converter with 65 V 2.5 A Integrated MOSFET; Made by: Texas Instruments; Note: Switching Voltage Regulators; ComponentLink1Description: Datasheet; ComponentLink1URL: https://www.ti.com/lit/ds/symlink/lm25183-q1.pdf?ts=1601923557129&ref_url=https%253A%252F%252Fwww.ti.com%252Fstore%252Fti%252Fen%252Fp%252Fproduct%252F%253Fp%253DLM25183QNGURQ1%2526keyMatch%253DLM25183QNGURQ1%2526tisearch%253DSearch-EN-everything%2526usec; ComponentLink2Description: Market; ComponentLink2URL: https://www.mouser.co.uk/ProductDetail/Texas-Instruments/LM25183QNGURQ1?qs=DPoM0jnrROXQGqS1LtP5UA%3D%3D; PartName: LM25183QNGURQ1; Value: LM25183QNGURQ1; Footprint: WSON-8
footprint WSON-8
pins: 1 SW, 2 FB, 3 VIN, 4 EN/UVLO, 5 SS/BIAS, 6 TC, 7 RSET, 8 GND, 9 EP

## LMT87QDCKRQ1
designator U?  (value not drawn)
Automotive Grade; Made by: Texas Instruments; ComponentLink1Description: Datasheet; ComponentLink1URL: http://www.ti.com/lit/gpn/lmt87-q1; ComponentLink2Description: Market; ComponentLink2URL: https://www.mouser.co.uk/ProductDetail/Texas-Instruments/LMT87QDCKRQ1?qs=xopfAcLiCQTI5WnuBkdRDw%3D%3D; PartName: LMT87QDCKRQ1; Value: LMT87QDCKRQ1; Footprint: SOT-5 (0.65); Note: *
footprint SOT-5 (0.65)
pins: 1 VDD, 2 GND, 3 OUT, 4 VDD, 5 VDD

## LMV331-Q1
designator U?
Analog Comparators; Made by: Texas Instruments; Note: Analog Comparators Gen Purp Lo Vltg Comparator; PartName: LMV331-Q1; Value: LMV331-Q1; Footprint: DBV5; ComponentLink1Description: Datasheet; ComponentLink1URL: https://www.ti.com/lit/ds/symlink/lmv331-q1.pdf?HQS=dis-mous-null-mousermode-dsf-pf-null-wwe&ts=1653383502347&ref_url=https%253A%252F%252Fwww.mouser.kr%252F; ComponentLink2Description: Market; ComponentLink2URL: https://www.mouser.kr/ProductDetail/Texas-Instruments/LMV331QDBVRQ1?qs=WxL8HmPi5r633WjD2uYyTQ%3D%3D
footprint DBV5
pins: 1 IN+ (in), 2 V- (power), 3 IN- (in), 4 OUT (out), 5 V+ (power)
text: -; +

## LMV431B
designator D?
LMV431B /SOT23/TO-236AB; PartName: TL431BFDT,215; Made by: Nexperia; Note: Voltage References; Value: LMV431B; Footprint: SOT23; ComponentLink1Description: Datasheet; ComponentLink1URL: https://www.ti.com/lit/ds/symlink/lmv431b.pdf?ts=1738908766913&ref_url=https%253A%252F%252Fwww.mouser.kr%252F; ComponentLink2Description: Market; ComponentLink2URL: https://www.mouser.kr/ProductDetail/Texas-Instruments/LMV431BIMF-NOPB?qs=7lkVKPoqpbZ1eqBBFR97uQ%3D%3D
footprint SOT23
pins: 1 REF, 2 C, 3 A

## LT8301JS5#WTRMPBF
designator U?
DMOS Power Switch; Made by: Analog Devices; Note: 42Vin Micropower No-Opto Isolated Flyback Converter with 65V/1.2A Switch; PartName: LT8301JS5#WTRMPBF; Value: LT8301JS5#WTRMPBF; Footprint: TSOT-23; ComponentLink1Description: Datasheet; ComponentLink1URL: https://www.mouser.com/datasheet/2/609/LT8301-1271365.pdf; ComponentLink2Description: Market; ComponentLink2URL: https://www.mouser.kr/ProductDetail/Analog-Devices/LT8301JS5WTRMPBF?qs=7MVldsJ5UayxKX9xm3hFzQ%3D%3D
footprint TSOT23-5
pins: 1 EV/UV (out), 2 PGND, 3 RFB (in), 4 SW, 5 VIN

## LTC7138HMSE#PBF
designator U?  (value not drawn)
Buck Switching Regulator IC Positive Adjustable _Programmable_ 0.8V _1.8V, 3.3V, 5V_ 1 Output 400mA 16-TFSOP _0.118, 3.00mm Width_ Exposed Pad, 12 Leads; Made by: Linear Technology; PartName: LTC7138HMSE#PBF; Value: LTC7138HMSE#PBF; Footprint: MSOP-16; Note: Buck Switching; ComponentLink1Description: Datasheet; ComponentLink1URL: https://www.mouser.kr/datasheet/2/609/7138f-2955542.pdf; ComponentLink2Description: Market; ComponentLink2URL: https://www.mouser.kr/ProductDetail/Analog-Devices/LTC7138HMSEPBF?qs=oahfZPh6IAJn86SPczDGJg%3D%3D
footprint SOP50P490X110-17_13N
pins: 1 SW (out), 3 VIN (power), 5 FBO (out), 6 VPRG2, 7 VPRG1, 8 GND (power), 9 VFB (in), 10 SS (in), 11 ISET (in), 12 OVLO (in), 14 RUN (in), 16 ANODE, 17 EPAD (power)

## MCP73832T-2ACI/MC
designator U?
Battery Management Charge mgnt contr; Made by: Microchip Technology; ComponentLink1Description: Datasheet; ComponentLink1URL: https://assets.nexperia.com/documents/data-sheet/74LVC2G74_Q100.pdf; ComponentLink2Description: Market; ComponentLink2URL: https://www.mouser.kr/ProductDetail/Microchip-Technology/MCP73832T-2ACI-MC?qs=yUQqVecv4qsHSZ5q80S33Q%3D%3D; PartName: MCP73832T-2ACI/MC; Value: *; Footprint: DFN-8; Note: *
footprint DFN-8
pins: 1 VDD, 2 VDD, 3 VBAT, 4 VBAT, 5 STAT, 6 VSS, 7 NC, 8 PROG, 9 EP

## MGJ2D151505SC
designator U?
Thermally Enhanced, Fully Integrated, Hall-Effect-Based / Linear Current Sensor IC with 100 µΩ Current Conducto; Made by: Allegro; PartName: MGJ2D151505SC; Value: MGJ2D151505SC; Footprint: 5-Pin CB Packag; Note: *; ComponentLink1Description: Datasheet; ComponentLink1URL: file:///D:/99%20Downloads/ACS758-Datasheet%20(1).pdf; ComponentLink2Description: Market; ComponentLink2URL: https://www.devicemart.co.kr/goods/view?no=9092446
footprint MGJ2D151505SC
pins: 1 VCC, 2 GND, 3 VIOUT, 4 IP+, 5 IP-

## MIC5219-3.0YML
designator U?, comment MIC5219-3.0YML-TR
LDO Voltage Regulators 500mA Peak 1% Low Noise LDO; Made by: Microchip Technology; ComponentLink1Description: Datasheet; ComponentLink1URL: https://www.mouser.kr/datasheet/2/268/MIC5219_500mA_Peak_Output_LDO_Regulator_DS20006021-3443777.pdf; ComponentLink2Description: Market; ComponentLink2URL: https://www.mouser.kr/ProductDetail/Microchip-Technology/MIC5219-3.0YML-TR?qs=U6T8BxXiZAWwN17UQBAcEg%3D%3D; PartName: MIC5219-3.0YML-TR; Value: *; Footprint: VDFN; Note: LDO Voltage Regulators
footprint VDFN
pins: 1 EN, 2 GND, 3 IN, 4 OUT, 5 NC, 6 BYP, 7 EP

## MOSFET(N)
designator Q?
N-Channel MOSFET; PartName: *; Value: *; Footprint: *; Made by: *; Note: *; ComponentLink1Description: Datasheet; ComponentLink1URL: *; ComponentLink2Description: Market; ComponentLink2URL: *
footprint SOT23-3
pins: 1 Gate, 2 Source, 3 Drain
text: D; G; S

## MOSFET(P)
designator Q?
P-Channel MOSFET; PartName: *; Value: *; Footprint: *; Made by: *; Note: *; ComponentLink1Description: Datasheet; ComponentLink1URL: *; ComponentLink2Description: Market; ComponentLink2URL: *
footprint SOT23-3
pins: 1 Gate, 1 Drain, 2 Source
text: D; G; S

## MOSFET(PMV60)
designator Q?, comment PMV60ENEAR
40 V, N-channel Trench MOSFET; Made by: Nexperia; Note: MOSFETs; PartName: PMV60ENEAR; Value: PMV60ENEAR; Footprint: SOT23-3; ComponentLink1Description: Datasheet; ComponentLink1URL: *; ComponentLink2Description: Market; ComponentLink2URL: *
footprint SOT23-3
pins: 1 Gate, 2 Source, 3 Drain
text: D; G; S

## NCV2901DTBR2G
designator U?
Integrated Circuit; Made by: Onsemi; ComponentLink1Description: Datasheet; ComponentLink1URL: https://www.onsemi.com/download/data-sheet/pdf/lm339-d.pdf; ComponentLink2Description: Market; ComponentLink2URL: https://www.mouser.kr/ProductDetail/onsemi/NCV2901DTBR2G?qs=S9Eyls9TyKYlYQvROsf6QA%3D%3D; PartName: NCV2901DTBR2G; Value: NCV2901DTBR2G; Footprint: TSSOP-14; Note: *
footprint TSSOP-14
part A pins: 2 OUT1, 3 V, 4 -IN1, 5 +IN1, 12 G
part B pins: 1 OUT2, 3 V, 6 -IN2, 7 +IN2, 12 G
part C pins: 3 V, 8 -IN3, 9 +IN3, 12 G, 14 OUT3
part D pins: 3 V, 10 -IN4, 11 +IN4, 12 G, 13 OUT4

## nLE523
designator U?
Bluetooth Module 5.1; Made by: CHIPSEN; ComponentLink1Description: Datasheet; ComponentLink1URL: https://chipsen.com/article/download/1002/509/; ComponentLink2Description: Market; ComponentLink2URL: https://chipautoinfra.cafe24.com/shop3/category/%EB%B8%94%EB%A3%A8%ED%88%AC%EC%8A%A4-%EB%AA%A8%EB%93%88ble/146/; PartName: *; Value: *; Footprint: nLE523_Dip; Note: Bluetooth Module
footprint nLE523_Dip
pins: 1 CTS, 2 RTS, 3 TXD, 4 RXD, 5 VCC, 6 GPO, 7 GPI, 8 GND

## NVMTSC4D3N15MC
designator Q?, comment MOSFET  (value not drawn)
MOSFET – Power,Single N-Channel, / TDFNW8 DUAL COOL; PartName: NVMTSC4D3N15MC; Value: NVMTSC4D3N15MC; Made by: onsemi; Note: 150V, 4.45mR, 165A; Footprint: TDFNW8; ComponentLink1Description: Datasheet; ComponentLink1URL: https://www.onsemi.com/pdf/datasheet/nvmtsc4d3n15mc-d.pdf; ComponentLink2Description: Market; ComponentLink2URL: https://www.digikey.kr/ko/products/detail/onsemi/NVMTSC4D3N15MC/15860597?utm_adgroup=&utm_source=google&utm_medium=cpc&utm_campaign=Pmax%20Shopping_Product_All&utm_term=&utm_content=&utm_id=go_cmp-21036528233_adg-_ad-__dev-c_ext-_prd-_sig-CjwKCAjw2dG1BhB4EiwA998cqBqgZah12pKwmah4tIq59oj7TXgPw8FckIapXl5YD-U4AVeWIndcpxoCE0kQAvD_BwE&gad_source=1&gclid=CjwKCAjw2dG1BhB4EiwA998cqBqgZah12pKwmah4tIq59oj7TXgPw8FckIapXl5YD-U4AVeWIndcpxoCE0kQAvD_BwE
footprint TDFNW8
pins: 1 Gate, 2 Source, 3 Source, 4 Source, 5 D, 6 Drain, 7 Drain, 8 Drain
text: G; S

## OPA365AQDBVRQ1
designator U?
Op 증폭기 2.2V,50MHz,Low-Noise Sgl-Sply R-R Op Amp; Made by: Texas Instruments; Note: Single-Supply Operational Amplifiers; PartName: OPA365AQDBVRQ1; Value: OPA365AQDBVRQ1; Footprint: SOT23-5; ComponentLink1Description: Datasheet; ComponentLink1URL: https://www.ti.com/general/docs/suppproductinfo.tsp?distId=26&gotoUrl=https://www.ti.com/lit/gpn/opa365-q1; ComponentLink2Description: Market; ComponentLink2URL: https://www.mouser.kr/ProductDetail/Texas-Instruments/OPA365AQDBVRQ1?qs=v3hU%2FV0XOaiiILR8%252Bfmu2Q%3D%3D
footprint SOT23-5
pins: 1 1OUT (out), 2 V- (power), 3 1IN+ (in), 4 1IN- (in), 5 V+ (power)
text: +; -

## PESD1CAN
designator D?
CAN bus ESD protection diode in SOT23; PartName: PESD1CAN; Value: PESD1CAN; Made by: Nexperia USA; Note: Max. peak pulse power: Ppp = 200 W at tp = 8/20μs; Footprint: SOT23; ComponentLink1Description: Datasheet; ComponentLink1URL: https://assets.nexperia.com/documents/data-sheet/PESD1CAN.pdf; ComponentLink2Description: Market; ComponentLink2URL: https://www.eleparts.co.kr/goods/view?no=3418636
footprint SOT23
pins: 1, 2, 3

## PESD2CAN
designator D?
ESD Protection Diodes / TVS Diodes PESD2CANFD27L-T/SOT23/TO-236AB; PartName: PESD2CANFD27L-TR; Value: PESD2CANFD27L-TR; Made by: Nexperia; Footprint: SOT23; Note: ESD Protection Diodes / TVS Diodes; ComponentLink1Description: Datasheet; ComponentLink1URL: https://assets.nexperia.com/documents/data-sheet/PESD1CAN.pdf; ComponentLink2Description: Market; ComponentLink2URL: https://www.eleparts.co.kr/goods/view?no=3418636
footprint SOT23
pins: 1, 2, 3

## PS2811-1-F3-K-A
designator IC?
Integrated Circuit; Manufacturer_Name: CEL; Manufacturer_Part_Number: PS2811-1-F3-K-A; Datasheet Link: https://datasheet.datasheetarchive.com/originals/distributors/Datasheets_SAMA/e00520b14130937508b53ebe3d73e62e.pdf; Height: 2.1mm; Mouser Part Number: 551-PS2811-1-F3-K-A; Mouser Price/Stock: https://www.mouser.com/Search/Refine.aspx?Keyword=551-PS2811-1-F3-K-A; Arrow Part Number: PS2811-1-F3-K-A; Arrow Price/Stock: https://www.arrow.com/en/products/ps2811-1-f3-k-a/california-eastern-laboratories
footprint SOIC127P700X210-4N
pins: 1 ANODE, 2 CATHODE, 3 EMITTER, 4 COLLECTOR

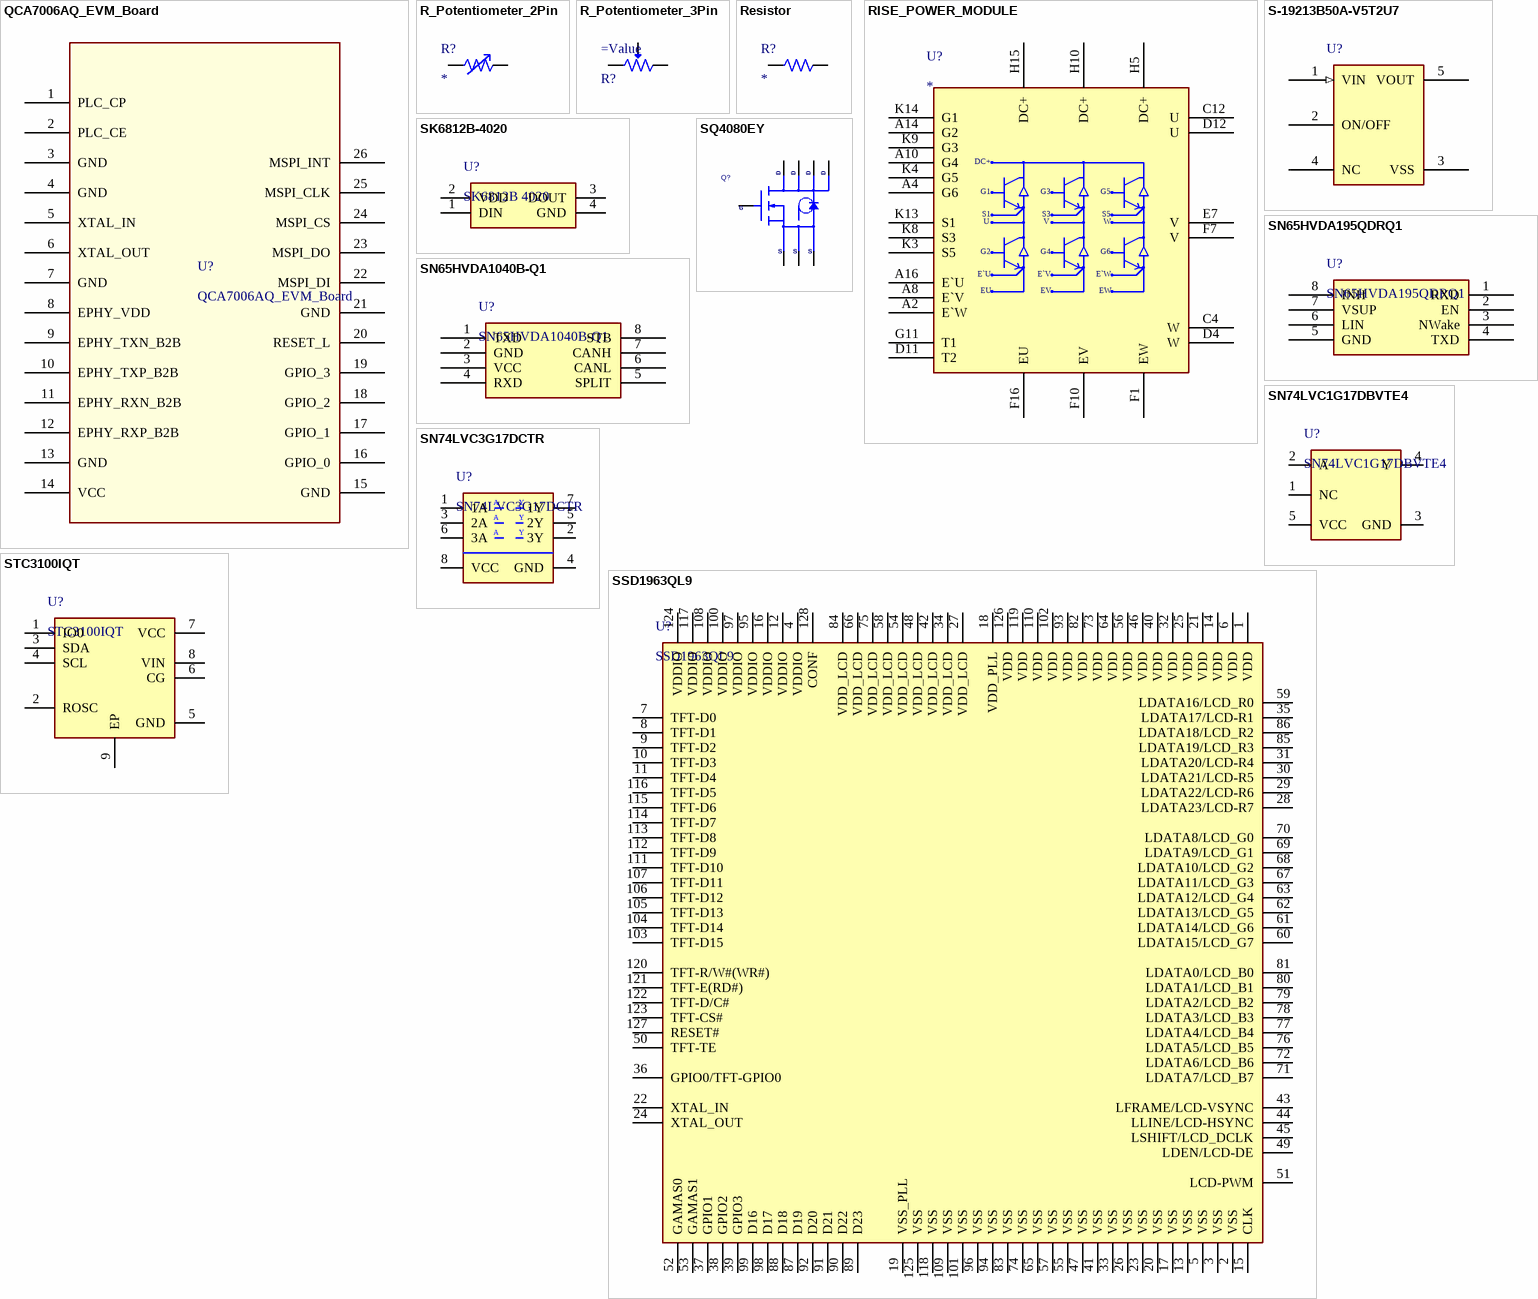
[diagram p2: symbols QCA7006AQ_EVM_Board to STC3100IQT]

## QCA7006AQ_EVM_Board
designator U?
PartName: ACS709LLFTR-35BB-T; Made by: Allegro MicroSystems; Note: Board Mount Current Sensors For New Designs Contact Factory; Value: QCA7006AQ_EVM_Board; Footprint: QSOP-24; ComponentLink1Description: Datasheet; ComponentLink2Description: Market
footprint QCA7006AQ_EVM_BOARD
pins: 1 PLC_CP, 2 PLC_CE, 3 GND, 4 GND, 5 XTAL_IN, 6 XTAL_OUT, 7 GND, 8 EPHY_VDD, 9 EPHY_TXN_B2B, 10 EPHY_TXP_B2B, 11 EPHY_RXN_B2B, 12 EPHY_RXP_B2B, 13 GND, 14 VCC, 15 GND, 16 GPIO_0, 17 GPIO_1, 18 GPIO_2, 19 GPIO_3, 20 RESET_L, 21 GND, 22 MSPI_DI, 23 MSPI_DO, 24 MSPI_CS, 25 MSPI_CLK, 26 MSPI_INT

## R_Potentiometer_2Pin
designator R?
Resistor; PartName: *; Value: *; Footprint: *; Made by: *; ComponentLink1Description: Datasheet; ComponentLink1URL: *; ComponentLink2Description: Market; ComponentLink2URL: *; Note: *
footprint R0603(0201) (Chip Resistor 0603(0201))
footprint R1005(0402) (Chip Resistor 1005(0402))
footprint R1608(0603) (Chip Resistor 1608(0603))
footprint R2012(0805) (Chip Resistor 2012(0805))
footprint R3045(1218) (Chip Resistor 3045(1218))
footprint R3216(1206) (Chip Resistor 3216(1206))
footprint R5025(2010) (Chip Resistor 5025(2010))
footprint R6432(2512) (Chip Resistor 6432(2512))
pins: 1, 2

## R_Potentiometer_3Pin
designator =Value, comment R?
Resistor; PartName: *; Value: *; Footprint: *; Made by: *; Note: *; ComponentLink1Description: Datasheet; ComponentLink1URL: *; ComponentLink2Description: Market; ComponentLink2URL: *
footprint TRIM_3224X
pins: 1, 2, 3

## Resistor
designator R?
Resistor; PartName: *; Value: *; Footprint: *; Made by: *; ComponentLink1Description: Datasheet; ComponentLink1URL: *; ComponentLink2Description: Market; ComponentLink2URL: *; Note: *
footprint R0603(0201) (Chip Resistor 0603(0201))
footprint R1005(0402) (Chip Resistor 1005(0402))
footprint R1608(0603) (Chip Resistor 1608(0603))
footprint R2012(0805) (Chip Resistor 2012(0805))
footprint R3045(1218) (Chip Resistor 3045(1218))
footprint R3216(1206) (Chip Resistor 3216(1206))
footprint R5025(2010) (Chip Resistor 5025(2010))
footprint R6432(2512) (Chip Resistor 6432(2512))
footprint R2550(1020)
pins: 1, 2

## RISE_POWER_MODULE
designator U?
Power Module to be Made at RISE / Power PIN : PSS-02-01-T-S; PartName: RISE_POWER_MODULE; Value: *; Footprint: EasyPack2B; Made by: RISE; Note: POWER; ComponentLink1Description: Datasheet; ComponentLink1URL: *; ComponentLink2Description: Market; ComponentLink2URL: https://www.mouser.kr/ProductDetail/Samtec/PSS-10-01-T-S?qs=rU5fayqh%252BE1iqTCqDHwxPA%3D%3D
pins: A2 E`W, A4 G6, A8 E`V, A10 G4, A14 G2, A16 E`U, C4 W, C12 U, D4 W, D11 T2, D12 U, E7 V, F1 EW, F7 V, F10 EV, F16 EU, G11 T1, H5 DC+, H10 DC+, H15 DC+, K3 S5, K4 G5, K8 S3, K9 G3, K13 S1, K14 G1
1 alternate drawing of the same symbol

## S-19213B50A-V5T2U7
designator U?  (value not drawn)
AUTOMOTIVE, 125°C OPERATION, / 36 V INPUT, 500 mA VOLTAGE REGULATOR; Made by: ABLIC; Note: LDO Voltage Regulators; PartName: S-19213B50A-V5T2U7; Value: S-19213B50A-V5T2U7; Footprint: MSOP-16; ComponentLink1Description: Datasheet; ComponentLink1URL: https://www.mouser.com/datasheet/2/1490/S19213_E-3430513.pdf; ComponentLink2Description: Market; ComponentLink2URL: https://www.mouser.com/ProductDetail/ABLIC/S-19213B50A-V5T2U7?qs=A6eO%252BMLsxmSWdQcpKzNNDA%3D%3D
footprint TO-252-5S
pins: 1 VIN (in), 2 ON/OFF, 3 VSS, 4 NC, 5 VOUT

## SK6812B-4020
designator U?, comment SK6812B 4020
Adafruit Accessories NeoPixel Side; Note: NeoPixel Side-Light RGB LED; PartName: SK6812B 4020; Value: *; Footprint: SK6812B-4020; Made by: Adafruit; ComponentLink1Description: Datasheet; ComponentLink1URL: https://cdn-shop.adafruit.com/product-files/4691/4691_SK68XX_SIDE_REV.04_EN_1_.pdf; ComponentLink2Description: Market; ComponentLink2URL: https://www.mouser.kr/ProductDetail/Adafruit/4691?qs=DPoM0jnrROWxg7zGo0cOBA%3D%3D
footprint SK6812B-4020
pins: 1 DIN, 2 VDD, 3 DOUT, 4 GND

## SN65HVDA195QDRQ1
designator U?
K- Line Phy Interface; Made by: Texas Instruments; PartName: SN65HVDA195QDRQ1; Value: SN65HVDA195QDRQ1; Footprint: SOIC-8; Note: K- Line Phy Interface; ComponentLink1Description: Datasheet; ComponentLink1URL: https://www.ti.com/lit/ds/symlink/sn65hvda195-q1.pdf?HQS=dis-mous-null-mousermode-dsf-pf-null-wwe&ts=1668640459556&ref_url=https%253A%252F%252Fwww.mouser.kr%252F; ComponentLink2Description: Market; ComponentLink2URL: https://www.mouser.kr/ProductDetail/Texas-Instruments/SN65HVDA195QDRQ1?qs=O3wcJz4o8IcBLFyz7Uilvg%3D%3D
footprint SOIC-8
pins: 1 RXD, 2 EN, 3 NWake, 4 TXD, 5 GND, 6 LIN, 7 VSUP, 8 INH

## SN65HVDA1040B-Q1
designator U?
EMC-Optimized High-Speed CAN Bus Transceiver, AEC-Q100 Qualified; PartName: TLE8366EV33; Made by: Infineon; Note: 1.8A DC/DC Step-Down Voltage Regulator; Value: SN65HVDA1040B-Q1; Footprint: SOIC-8; ComponentLink1Description: Datasheet; ComponentLink1URL: https://www.ti.com/lit/ds/symlink/sn65hvda1040b-q1.pdf?HQS=dis-mous-null-mousermode-dsf-pf-null-wwe&ts=1686215009229&ref_url=https%253A%252F%252Fwww.mouser.kr%252F; ComponentLink2Description: Market; ComponentLink2URL: https://www.mouser.kr/ProductDetail/Texas-Instruments/SN65HVDA1040BQDRQ1?qs=%252B6g0mu59x7KJMeAqWjQEQA%3D%3D
footprint SOIC-8
pins: 1 TXD, 2 GND, 3 VCC, 4 RXD, 5 SPLIT, 6 CANL, 7 CANH, 8 STB

## SN74LVC1G17DBVTE4
designator U?
IC BUF NON-INVERT 5.5V SOT23-5; Made by: Texas Instruments; Note: Buffer, Non-Inverting; PartName: SN74LVC1G17DBVTE4; Value: SN74LVC1G17DBVTE4; Footprint: SOT23-5; ComponentLink1Description: Datasheet; ComponentLink1URL: https://www.ti.com/lit/ds/symlink/sn74lvc1g17.pdf; ComponentLink2Description: Market; ComponentLink2URL: https://www.devicemart.co.kr/goods/view?no=12425596
footprint SOT23-5
pins: 1 NC, 2 A, 3 GND, 4 Y, 5 VCC

## SN74LVC3G17DCTR
designator U?
Buffers & Line Drivers TRIPLE SCHMITT- TRIGGER BUFFER; Made by: Texas Instruments; Note: Buffer, Non-Inverting; PartName: SN74LVC3G17DCTR; Value: SN74LVC3G17DCTR; Footprint: SOT23-5; ComponentLink1Description: Datasheet; ComponentLink1URL: https://www.ti.com/lit/ds/symlink/sn74lvc3g17.pdf?HQS=dis-mous-null-mousermode-dsf-pf-null-wwe&ts=1655788184810&ref_url=https%253A%252F%252Fwww.mouser.kr%252F; ComponentLink2Description: Market; ComponentLink2URL: https://www.mouser.kr/ProductDetail/Texas-Instruments/SN74LVC3G17DCTR?qs=0smPjiIwnfJoh6NdDLRU8g%3D%3D
footprint SSOP-8N
pins: 1 1A, 2 3Y, 3 2A, 4 GND, 5 2Y, 6 3A, 7 1Y, 8 VCC
text: A; Y

## SQ4080EY
designator Q?, comment MOSFET  (value not drawn)
Automotive N-Channel 150 V (D-S) 175 °C MOSFET; PartName: SQ4080EY-T1_BE3; Value: SQ4080EY; Made by: Vishay; Note: MOSFETs N-CHANNEL 150-V (D-S) 175C MOSFET; Footprint: SOIC-8; ComponentLink1Description: Datasheet; ComponentLink1URL: https://www.vishay.com/docs/71158/sq4080ey.pdf; ComponentLink2Description: Market; ComponentLink2URL: https://www.mouser.kr/ProductDetail/Vishay/SQ4080EY-T1_BE3?qs=Wj%2FVkw3K%252BMAuvQ5Szj1OBw%3D%3D
footprint SOIC-8
pins: 1 Source, 2 Source, 3 Source, 4 Gate, 5 D, 6 Drain, 7 Drain, 8 Drain
text: G; S

## SSD1963QL9
designator U?
LCD Drivers ROHS; Made by: Solomon Systech; Note: LQFP-128(14x14) LCD Drivers ROHS / LCSC Part Number : C15216; ComponentLink1Description: Datasheet; ComponentLink1URL: https://wmsc.lcsc.com/wmsc/upload/file/pdf/v2/lcsc/1811101704_Solomon-Systech-SSD1963QL9_C15216.pdf; ComponentLink2Description: Market; ComponentLink2URL: https://www.devicemart.co.kr/goods/view?no=15067724; PartName: SSD1963QL9; Value: *; Footprint: LQFP-128
footprint LQFP128
pins: 1 VDD, 2 VSS, 3 VSS, 4 VDDIO, 5 VSS, 6 VDD, 7 TFT-D0, 8 TFT-D1, 9 TFT-D2, 10 TFT-D3, 11 TFT-D4, 12 VDDIO, 13 VSS, 14 VDD, 15 CLK, 16 VDDIO, 17 VSS, 18 VDD_PLL, 19 VSS_PLL, 20 VSS, 21 VDD, 22 XTAL_IN, 23 VSS, 24 XTAL_OUT, 25 VDD, 26 VSS, 27 VDD_LCD, 28 LDATA23/LCD-R7, 29 LDATA22/LCD-R6, 30 LDATA21/LCD-R5, 31 LDATA20/LCD-R4, 32 VDD, 33 VSS, 34 VDD_LCD, 35 LDATA17/LCD-R1, 36 GPIO0/TFT-GPIO0, 37 GPIO1, 38 GPIO2, 39 GPIO3, 40 VDD, 41 VSS, 42 VDD_LCD, 43 LFRAME/LCD-VSYNC, 44 LLINE/LCD-HSYNC, 45 LSHIFT/LCD_DCLK, 46 VDD, 47 VSS, 48 VDD_LCD, 49 LDEN/LCD-DE, 50 TFT-TE, 51 LCD-PWM, 52 GAMAS0, 53 GAMAS1, 54 VDD_LCD, 55 VSS, 56 VDD, 57 VSS, 58 VDD_LCD, 59 LDATA16/LCD_R0, 60 LDATA15/LCD_G7, 61 LDATA14/LCD_G6, 62 LDATA13/LCD_G5, 63 LDATA12/LCD_G4, 64 VDD, 65 VSS, 66 VDD_LCD, 67 LDATA11/LCD_G3, 68 LDATA10/LCD_G2, 69 LDATA9/LCD_G1, 70 LDATA8/LCD_G0, 71 LDATA7/LCD_B7, 72 LDATA6/LCD_B6, 73 VDD, 74 VSS, 75 VDD_LCD, 76 LDATA5/LCD_B5, 77 LDATA4/LCD_B4, 78 LDATA3/LCD_B3, 79 LDATA2/LCD_B2, 80 LDATA1/LCD_B1, 81 LDATA0/LCD_B0, 82 VDD, 83 VSS, 84 VDD_LCD, 85 LDATA19/LCD_R3, 86 LDATA18/LCD_R2, 87 D19, 88 D18, 89 D23, 90 D22, 91 D21, 92 D20, 93 VDD, 94 VSS, 95 VDDIO, 96 VSS, 97 VDDIO, 98 D17, 99 D16, 100 VDDIO, 101 VSS, 102 VDD, 103 TFT-D15, 104 TFT-D14, 105 TFT-D13, 106 TFT-D12, 107 TFT-D11, 108 VDDIO, 109 VSS, 110 VDD, 111 TFT-D10, 112 TFT-D9, 113 TFT-D8, 114 TFT-D7, 115 TFT-D6, 116 TFT-D5, 117 VDDIO, 118 VSS, 119 VDD, 120 TFT-R/W#(WR#), 121 TFT-E(RD#), 122 TFT-D/C#, 123 TFT-CS#, 124 VDDIO, 125 VSS, 126 VDD, 127 RESET#, 128 CONF

## STC3100IQT
designator U?
Battery Management STANDARD LINEAR BATT MNTR IC; Made by: STMicroelectronics; ComponentLink1Description: Datasheet; ComponentLink1URL: https://www.mouser.kr/datasheet/2/389/stc3100-1850393.pdf; ComponentLink2Description: Market; ComponentLink2URL: https://www.mouser.kr/ProductDetail/STMicroelectronics/STC3100IQT?qs=5HwTSiuA5HDsKeh7OcFHSQ%3D%3D; PartName: STC3100IQT; Value: *; Footprint: DFN-8; Note: *
footprint DFN-8
pins: 1 IO0, 2 ROSC, 3 SDA, 4 SCL, 5 GND, 6 CG, 7 VCC, 8 VIN, 9 EP

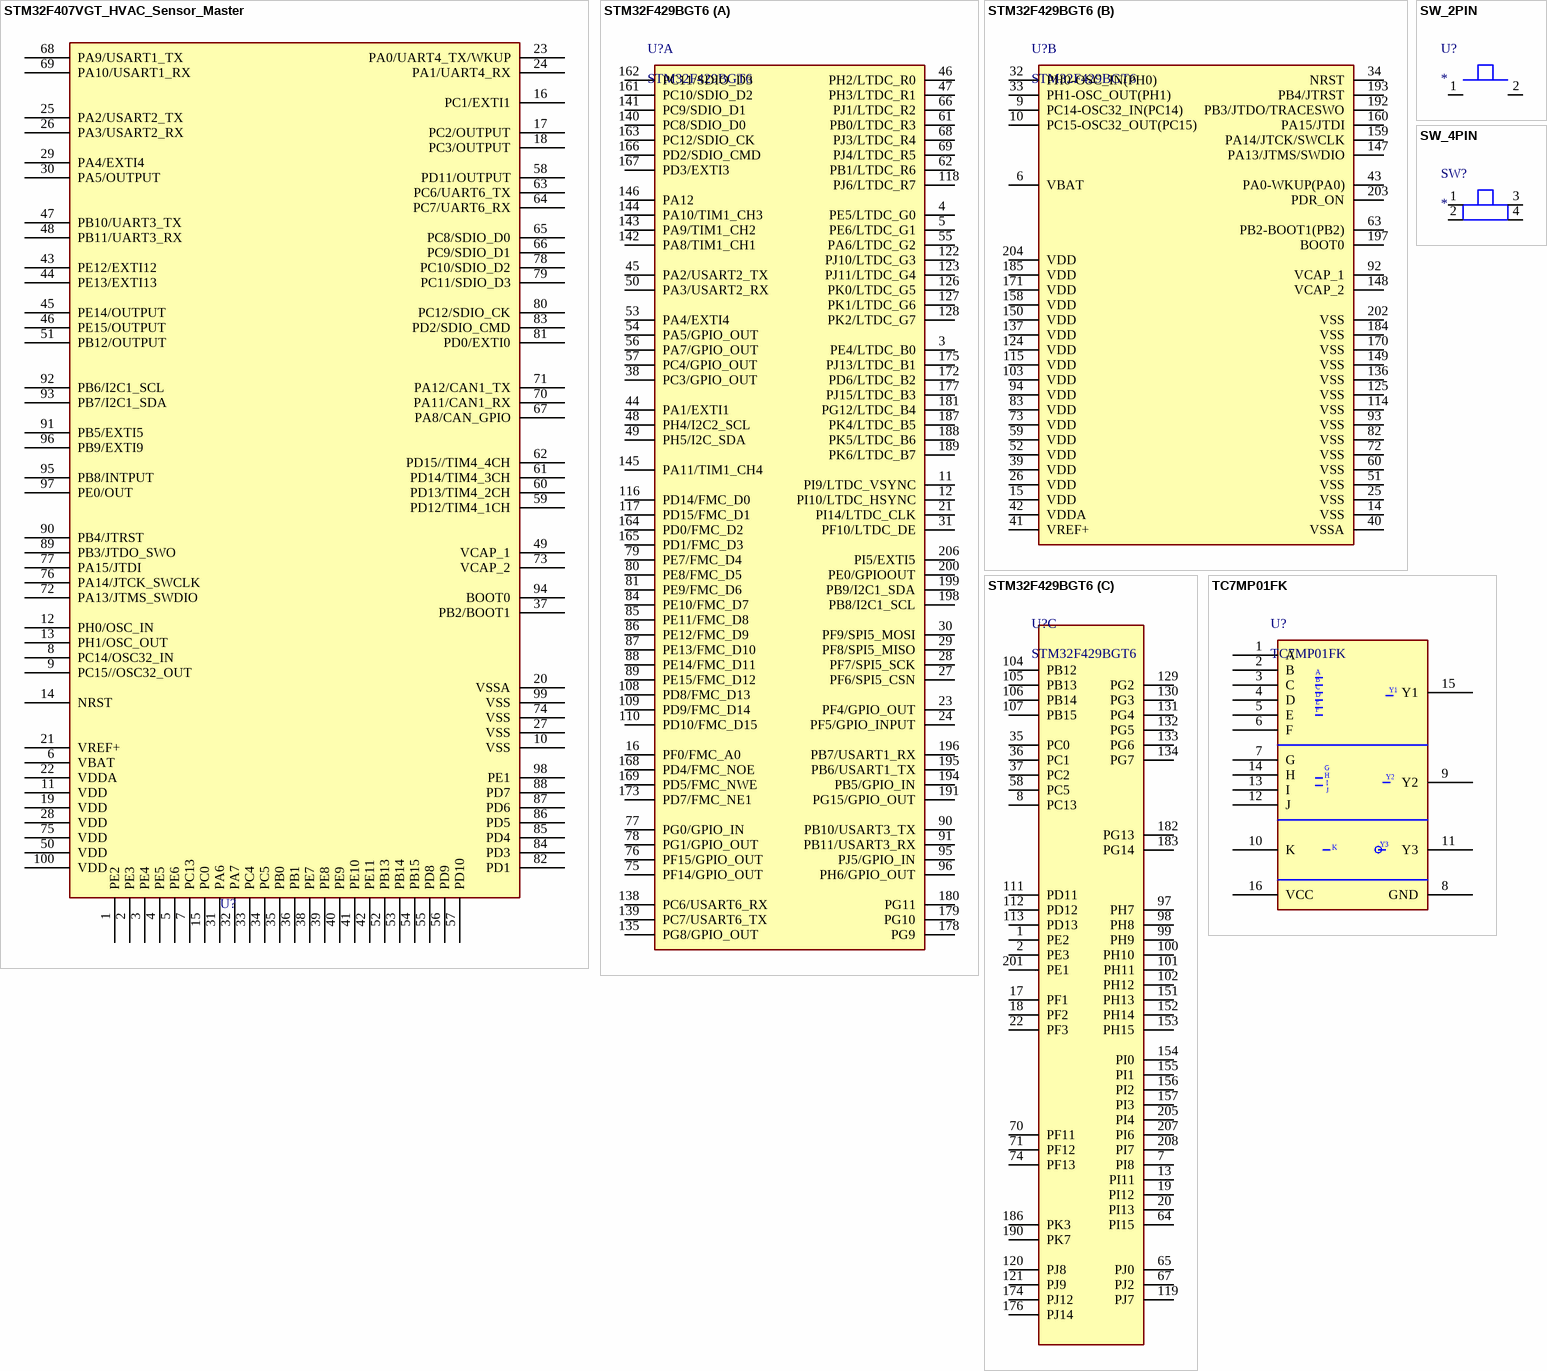
[diagram p3: symbols STM32F407VGT_HVAC_Sensor_Master to TC7MP01FK]

## STM32F407VGT_HVAC_Sensor_Master
designator U?, comment STM32F407VGT6  (value not drawn)
ARM Microcontrollers - MCU ARM M4 1024 FLASH 168 Mhz 192kB SRAM; Made by: STMicroelectronics; PartName: STM32F407VGT6; Value: STM32F407VGT6; Footprint: LQFP-100; Note: ARM Microcontrollers - MCU; ComponentLink1Description: Datasheet; ComponentLink1URL: https://www.mouser.kr/datasheet/2/389/stm32f405rg-1851084.pdf; ComponentLink2Description: Market; ComponentLink2URL: https://www.mouser.kr/ProductDetail/STMicroelectronics/STM32F407VGT6?qs=Z8%252BeY1k3TIKAEQqwbO%2FOzA%3D%3D
footprint LQFP-100
pins: 1 PE2, 2 PE3, 3 PE4, 4 PE5, 5 PE6, 6 VBAT, 7 PC13, 8 PC14/OSC32_IN, 9 PC15//OSC32_OUT, 10 VSS, 11 VDD, 12 PH0/OSC_IN, 13 PH1/OSC_OUT, 14 NRST, 15 PC0, 16 PC1/EXTI1, 17 PC2/OUTPUT, 18 PC3/OUTPUT, 19 VDD, 20 VSSA, 21 VREF+, 22 VDDA, 23 PA0/UART4_TX/WKUP, 24 PA1/UART4_RX, 25 PA2/USART2_TX, 26 PA3/USART2_RX, 27 VSS, 28 VDD, 29 PA4/EXTI4, 30 PA5/OUTPUT, 31 PA6, 32 PA7, 33 PC4, 34 PC5, 35 PB0, 36 PB1, 37 PB2/BOOT1, 38 PE7, 39 PE8, 40 PE9, 41 PE10, 42 PE11, 43 PE12/EXTI12, 44 PE13/EXTI13, 45 PE14/OUTPUT, 46 PE15/OUTPUT, 47 PB10/UART3_TX, 48 PB11/UART3_RX, 49 VCAP_1, 50 VDD, 51 PB12/OUTPUT, 52 PB13, 53 PB14, 54 PB15, 55 PD8, 56 PD9, 57 PD10, 58 PD11/OUTPUT, 59 PD12/TIM4_1CH, 60 PD13/TIM4_2CH, 61 PD14/TIM4_3CH, 62 PD15//TIM4_4CH, 63 PC6/UART6_TX, 64 PC7/UART6_RX, 65 PC8/SDIO_D0, 66 PC9/SDIO_D1, 67 PA8/CAN_GPIO, 68 PA9/USART1_TX, 69 PA10/USART1_RX, 70 PA11/CAN1_RX, 71 PA12/CAN1_TX, 72 PA13/JTMS_SWDIO, 73 VCAP_2, 74 VSS, 75 VDD, 76 PA14/JTCK_SWCLK, 77 PA15/JTDI, 78 PC10/SDIO_D2, 79 PC11/SDIO_D3, 80 PC12/SDIO_CK, 81 PD0/EXTI0, 82 PD1, 83 PD2/SDIO_CMD, 84 PD3, 85 PD4, 86 PD5, 87 PD6, 88 PD7, 89 PB3/JTDO_SWO, 90 PB4/JTRST, 91 PB5/EXTI5, 92 PB6/I2C1_SCL, 93 PB7/I2C1_SDA, 94 BOOT0, 95 PB8/INTPUT, 96 PB9/EXTI9, 97 PE0/OUT, 98 PE1, 99 VSS, 100 VDD